# Altium schematic symbol library 常用1.SchLib: 107 symbols
Pins are listed as number, name and electrical type; pins without a type are passive.

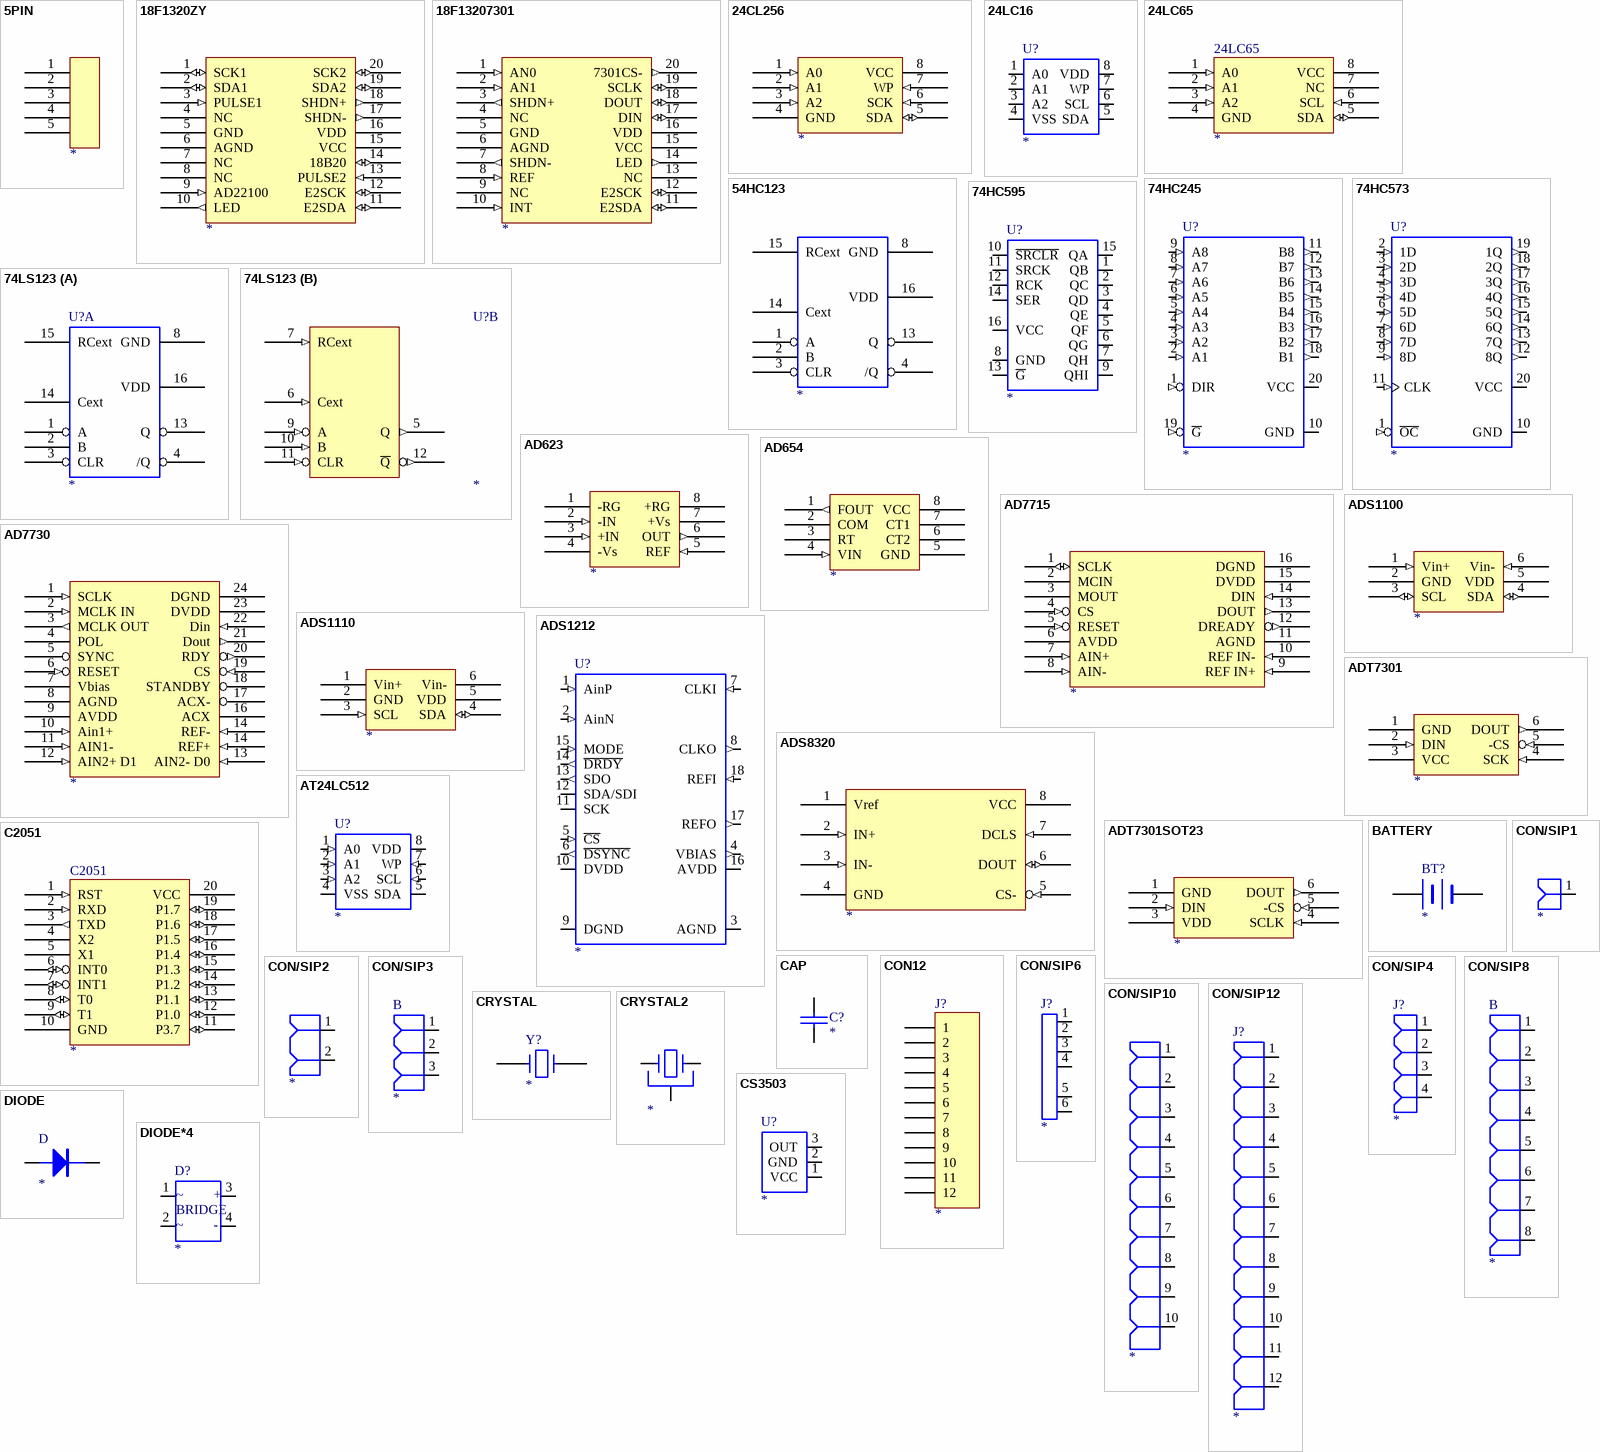
[diagram p0: symbols 5PIN to DIODE*4]

## 5PIN
designator ?
pins: 1, 2, 3, 4, 5

## 18F1320ZY
designator ?
pins: 1 SCK1 (io), 2 SDA1 (io), 3 PULSE1 (in), 4 NC, 5 GND (power), 6 AGND (power), 7 NC, 8 NC, 9 AD22100 (in), 10 LED (out), 11 E2SDA (io), 12 E2SCK (io), 13 PULSE2 (in), 14 18B20 (io), 15 VCC (power), 16 VDD (power), 17 SHDN- (out), 18 SHDN+ (out), 19 SDA2 (io), 20 SCK2 (io)

## 18F13207301
designator ?
pins: 1 AN0 (in), 2 AN1 (in), 3 SHDN+ (out), 4 NC, 5 GND (power), 6 AGND (power), 7 SHDN- (out), 8 REF (in), 9 NC, 10 INT (in), 11 E2SDA (io), 12 E2SCK (io), 13 NC, 14 LED (out), 15 VCC (power), 16 VDD (power), 17 DIN (io), 18 DOUT (io), 19 SCLK (io), 20 7301CS- (out)

## 24CL256
designator ?
pins: 1 A0 (in), 2 A1 (in), 3 A2 (in), 4 GND (power), 5 SDA (io), 6 SCK (in), 7 WP (in), 8 VCC (power)

## 24LC16
designator U?
footprint SO-8
pins: 1 A0, 2 A1, 3 A2, 4 VSS, 5 SDA, 6 SCL, 7 WP, 8 VDD

## 24LC65
designator 24LC65
24LC65
pins: 1 A0 (in), 2 A1 (in), 3 A2 (in), 4 GND (power), 5 SDA (io), 6 SCL (in), 7 NC, 8 VCC (power)

## 54HC123
designator ?
pins: 1 A, 2 B, 3 CLR, 4 /Q, 8 GND, 13 Q, 14 Cext, 15 RCext, 16 VDD

## 74HC245
designator U?
footprint DIP20
pins: 1 DIR (in), 2 A1 (in), 3 A2 (in), 4 A3 (in), 5 A4 (in), 6 A5 (in), 7 A6 (in), 8 A7 (in), 9 A8 (in), 10 GND (power), 11 B8 (out), 12 B7 (out), 13 B6 (out), 14 B5 (out), 15 B4 (out), 16 B3 (out), 17 B2 (out), 18 B1 (out), 19 ~{G} (in), 20 VCC (power)

## 74HC573
designator U?
footprint DIP-20
pins: 1 ~{OC} (in), 2 1D (in), 3 2D (in), 4 3D (in), 5 4D (in), 6 5D (in), 7 6D (in), 8 7D (in), 9 8D (in), 10 GND (power), 11 CLK (in), 12 8Q (out), 13 7Q (out), 14 6Q (out), 15 5Q (out), 16 4Q (out), 17 3Q (out), 18 2Q (out), 19 1Q (out), 20 VCC (power)

## 74HC595
designator U?
footprint DIP16
footprint SO-16
pins: 1 QB, 2 QC, 3 QD, 4 QE, 5 QF, 6 QG, 7 QH, 8 GND, 9 QHI, 10 ~{SRCLR}, 11 SRCK, 12 RCK, 13 ~{G}, 14 SER, 15 QA, 16 VCC

## 74LS123
designator U?
footprint DIP-16
part A pins: 1 A, 2 B, 3 CLR, 4 /Q, 8 GND, 13 Q, 14 Cext, 15 RCext, 16 VCC (power) hidden to VCC, 16 VDD
part B pins: 5 Q (out), 6 Cext (in), 7 RCext (in), 8 GND (power) hidden to GND, 9 A (in), 10 B (in), 11 CLR (in), 12 ~{Q} (out), 16 VCC (power) hidden to VCC

## AD623
designator ?
pins: 1 -RG, 2 -IN (in), 3 +IN (in), 4 -Vs (power), 5 REF (in), 6 OUT (out), 7 +Vs (power), 8 +RG

## AD654
designator ?
pins: 1 FOUT (out), 2 COM (power), 3 RT, 4 VIN (in), 5 GND (power), 6 CT2, 7 CT1, 8 VCC (power)

## AD7715
designator ?
pins: 1 SCLK (io), 2 MCIN (hiz), 3 MOUT (hiz), 4 CS (in), 5 RESET (in), 6 AVDD (power), 7 AIN+ (in), 8 AIN- (in), 9 REF IN+ (in), 10 REF IN- (in), 11 AGND (power), 12 DREADY (out), 13 DOUT (out), 14 DIN (in), 15 DVDD (power), 16 DGND (power)

## AD7730
designator ?
pins: 1 SCLK (in), 2 MCLK IN (in), 3 MCLK OUT (out), 4 POL, 5 SYNC, 6 RESET (in), 7 Vbias, 8 AGND (power), 9 AVDD (power), 10 Ain1+ (in), 11 AIN1- (in), 12 AIN2+ D1 (in), 13 AIN2- D0 (in), 14 REF+ (in), 14 REF- (in), 16 ACX, 17 ACX-, 18 STANDBY, 19 CS (in), 20 RDY (out), 21 Dout (out), 22 Din (in), 23 DVDD (power), 24 DGND (power)

## ADS1100
designator ?
pins: 1 Vin+ (in), 2 GND (power), 3 SCL (io), 4 SDA (io), 5 VDD (power), 6 Vin- (in)

## ADS1110
designator ?
pins: 1 Vin+, 2 GND (power), 3 SCL (in), 4 SDA (io), 5 VDD (power), 6 Vin-

## ADS1212
designator U?
footprint DIP18
footprint SO-18
pins: 1 AinP (in), 2 AinN (in), 3 AGND (power), 4 VBIAS (out), 5 ~{CS} (in), 6 ~{DSYNC} (out), 7 CLKI (in), 8 CLKO (out), 9 DGND (power), 10 DVDD (power), 11 SCK (io), 12 SDA/SDI (io), 13 SDO (out), 14 ~{DRDY} (out), 15 MODE (in), 16 AVDD (power), 17 REFO (out), 18 REFI (in)

## ADS8320
designator ?
pins: 1 Vref, 2 IN+ (in), 3 IN- (in), 4 GND (power), 5 CS- (in), 6 DOUT (io), 7 DCLS (in), 8 VCC (power)

## ADT7301
designator ?
pins: 1 GND (power), 2 DIN (in), 3 VCC (power), 4 SCK (in), 5 -CS (in), 6 DOUT (out)

## ADT7301SOT23
designator ?
pins: 1 GND (power), 2 DIN (in), 3 VDD (power), 4 SCLK (in), 5 -CS (in), 6 DOUT (out)

## AT24LC512
designator U?
footprint DIP8
pins: 1 A0 (in), 2 A1 (in), 3 A2 (in), 4 VSS (power), 5 SDA (io), 6 SCL (in), 7 WP (in), 8 VDD (power)

## BATTERY
designator BT?
Battery
pins: 1 +, 2 -

## C2051
designator C2051
C2051
pins: 1 RST (in), 2 RXD (in), 3 TXD (out), 4 X2, 5 X1, 6 INT0 (io), 7 INT1 (io), 8 T0 (io), 9 T1 (io), 10 GND (power), 11 P3.7 (io), 12 P1.0 (io), 13 P1.1 (io), 14 P1.2 (io), 15 P1.3 (io), 16 P1.4 (io), 17 P1.5 (io), 18 P1.6 (io), 19 P1.7 (io), 20 VCC (power)

## CAP
designator C?
Capacitor
pins: 1, 2

## CON12
designator J?
Connector
pins: 1, 2, 3, 4, 5, 6, 7, 8, 9, 10, 11, 12

## CON/SIP1
designator ?
pins: 1

## CON/SIP2
designator ?
pins: 1  , 2

## CON/SIP3
designator B
footprint SIP2
footprint CON/SIP2/200W
footprint CON/SIP2/200Y
pins: 1  , 2, 3  

## CON/SIP4
designator J?
footprint SIP4
pins: 1, 2, 3, 4

## CON/SIP6
designator J?
pins: 1  , 2, 3  , 4  , 5, 6  

## CON/SIP8
designator B
footprint VA4
footprint CON/SIP8/200Y
footprint CON/SIP8/200W
pins: 1  , 2  , 3  , 4  , 5   , 6   , 7, 8

## CON/SIP10
designator ?
pins: 1  , 2  , 3  , 4  , 5   , 6   , 7, 8, 9, 10

## CON/SIP12
designator J?
footprint POWER_SIP12
pins: 1  , 2  , 3  , 4  , 5   , 6   , 7, 8, 9, 10, 11, 12

## CRYSTAL
designator Y?
Crystal
pins: 1, 2

## CRYSTAL2
designator ?
pins: 1, 2, 3

## CS3503
designator U?
footprint TOP-92B
pins: 1 VCC, 2 GND, 3 OUT

## DIODE
designator D
footprint DIODE0.4
footprint DIODE0.5
footprint DIODE0.2
footprint DIODE/SO.1
pins: 1, 2

## DIODE*4
designator D?
pins: 1, 2, 3, 4
text: ~; +; BRIDGE; -

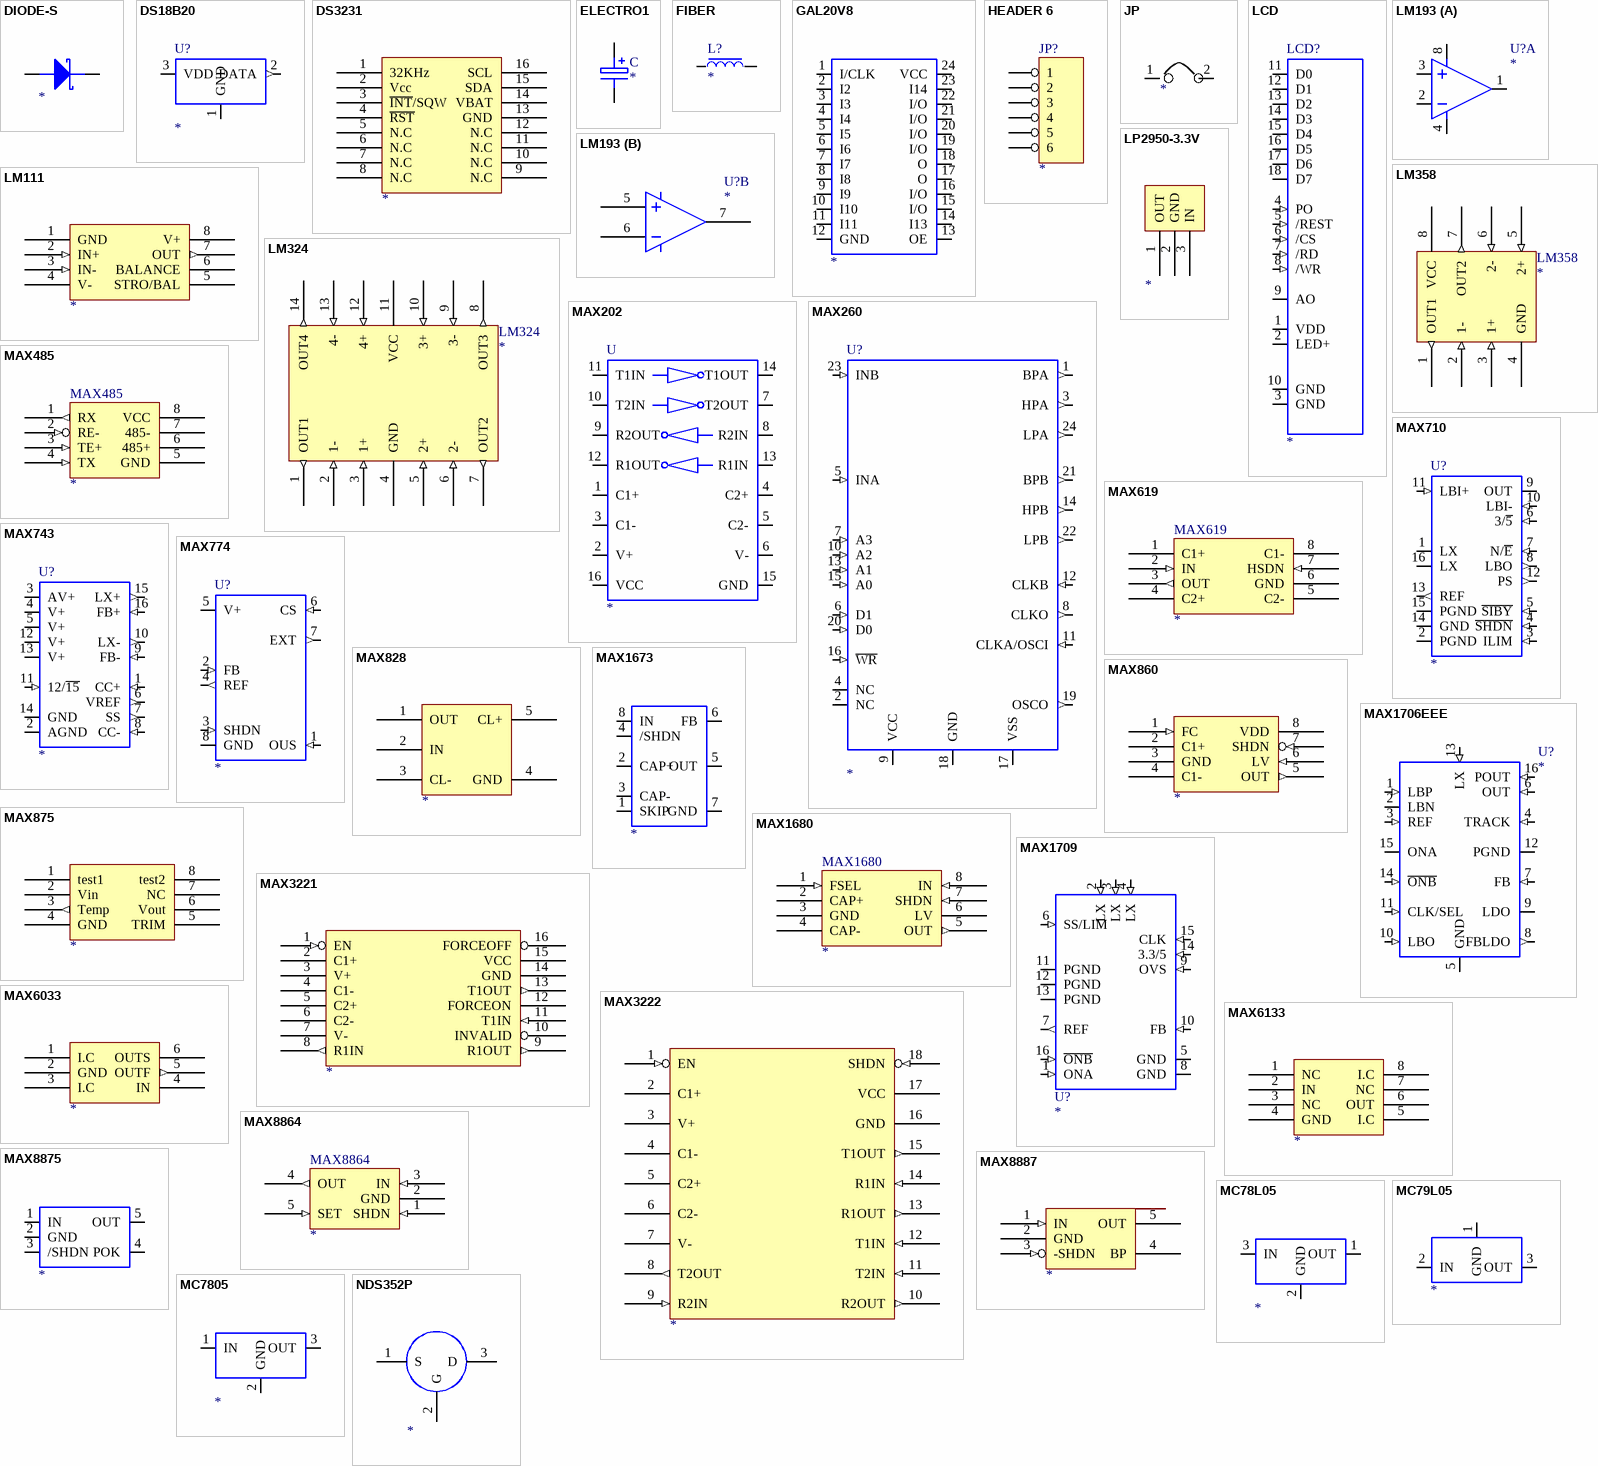
[diagram p1: symbols DIODE-S to NDS352P]

## DIODE-S
designator ?
pins: 1, 2

## DS18B20
designator U?
footprint TO-92A
pins: 1 GND (power), 2 DATA (out), 3 VDD (power)

## DS3231
designator ?
pins: 1 32KHz, 2 Vcc, 3 ~{INT}/SQW, 4 ~{RST}, 5 N.C, 6 N.C, 7 N.C, 8 N.C, 9 N.C, 10 N.C, 11 N.C, 12 N.C, 13 GND, 14 VBAT, 15 SDA, 16 SCL

## ELECTRO1
designator C
footprint RB.1/.2
footprint RB.2/.4
footprint RB.3/.6
footprint 1210
pins: 1, 2

## FIBER
designator L?
footprint L0.4
footprint 0805
footprint 1210
pins: 1, 2

## GAL20V8
designator ?
pins: 1 I/CLK, 2 I2, 3 I3, 4 I4, 5 I5, 6 I6, 7 I7, 8 I8, 9 I9, 10 I10, 11 I11, 12 GND, 13 OE, 14 I13, 15 I/O, 16 I/O, 17 O, 18 O, 19 I/O, 20 I/O, 21 I/O, 22 I/O, 23 I14, 24 VCC

## HEADER 6
designator JP?
pins: 1, 2, 3, 4, 5, 6

## JP
designator ?
pins: 1, 2

## LCD
designator LCD?
footprint CON22
pins: 1 VDD (power), 2 LED+ (power), 3 GND (power), 4 PO (in), 5 /REST (in), 6 /CS (in), 7 /RD (in), 8 /WR (in), 9 AO, 10 GND (power), 11 D0 (io), 12 D1 (io), 13 D2 (io), 14 D3 (io), 15 D4 (io), 16 D5 (io), 17 D6 (io), 18 D7 (io)

## LM111
designator ?
pins: 1 GND (power), 2 IN+ (in), 3 IN- (in), 4 V- (power), 5 STRO/BAL, 6 BALANCE, 7 OUT (out), 8 V+ (power)

## LM193
designator U?
footprint DIP-8
part A pins: 1, 2, 3, 4, 8
part B pins: 5, 6, 7

## LM324
designator LM324
pins: 1 OUT1 (out), 2 1- (in), 3 1+ (in), 4 GND (power), 5 2+ (in), 6 2- (in), 7 OUT2 (out), 8 OUT3 (out), 9 3- (in), 10 3+ (in), 11 VCC (power), 12 4+ (in), 13 4- (in), 14 OUT4 (out)

## LM358
designator LM358
pins: 1 OUT1 (out), 2 1- (in), 3 1+ (in), 4 GND (power), 5 2+ (in), 6 2- (in), 7 OUT2 (out), 8 VCC (power)

## LP2950-3.3V
designator ?
pins: 1 OUT, 2 GND, 3 IN

## MAX202
designator U
footprint DIP16
pins: 1 C1+, 2 V+, 3 C1-, 4 C2+, 5 C2-, 6 V-, 7 T2OUT, 8 R2IN, 9 R2OUT, 10 T2IN, 11 T1IN, 12 R1OUT, 13 R1IN, 14 T1OUT, 15 GND, 16 VCC

## MAX260
designator U?
footprint SO-W24
footprint DIP24
pins: 1 BPA (out), 2 NC, 3 HPA (out), 4 NC, 5 INA (in), 6 D1 (in), 7 A3 (in), 8 CLKO (out), 9 VCC (power), 10 A2 (in), 11 CLKA/OSCI (in), 12 CLKB (in), 13 A1 (in), 14 HPB (out), 15 A0 (in), 16 ~{WR} (in), 17 VSS (power), 18 GND (power), 19 OSCO (out), 20 D0 (in), 21 BPB (out), 22 LPB (out), 23 INB (in), 24 LPA (out)

## MAX485
designator MAX485
MAX485
pins: 1 RX (out), 2 RE- (in), 3 TE+ (in), 4 TX (in), 5 GND (power), 6 485+, 7 485-, 8 VCC (power)

## MAX619
designator MAX619
MAX619
pins: 1 C1+, 2 IN (in), 3 OUT (out), 4 C2+, 5 C2-, 6 GND (power), 7 HSDN (in), 8 C1-

## MAX710
designator U?
MAX710/1
pins: 1 LX (power), 2 PGND (power), 3 ILIM (in), 4 ~{SHDN} (in), 5 ~{SIBY} (in), 6 3/~{5} (in), 7 N/~{E} (in), 8 LBO (out), 9 OUT (power), 10 LBI- (in), 11 LBI+ (in), 12 PS (out), 13 REF (out), 14 GND (power), 15 PGND (power), 16 LX (power)

## MAX743
designator U?
MAX743
footprint DIP16
pins: 1 CC+ (in), 2 AGND (power), 3 AV+ (power), 4 V+ (power), 5 V+ (power), 6 VREF (out), 7 SS (out), 8 CC- (in), 9 FB- (in), 10 LX- (out), 11 12/~{15} (in), 12 V+ (power), 13 V+ (power), 14 GND (power), 15 LX+ (out), 16 FB+ (in)

## MAX774
designator U?
footprint SO-8
pins: 1 OUS (in), 2 FB (in), 3 SHDN (in), 4 REF (out), 5 V+ (power), 6 CS (in), 7 EXT (out), 8 GND (power)

## MAX828
designator ?
pins: 1 OUT (power), 2 IN (power), 3 CL-, 4 GND (power), 5 CL+

## MAX860
designator ?
pins: 1 FC (in), 2 C1+, 3 GND (power), 4 C1-, 5 OUT (out), 6 LV (in), 7 SHDN (in), 8 VDD (power)

## MAX875
designator ?
pins: 1 test1, 2 Vin (power), 3 Temp (out), 4 GND (power), 5 TRIM, 6 Vout (power), 7 NC, 8 test2

## MAX1673
designator ?
pins: 1 SKIP, 2 CAP+, 3 CAP-, 4 /SHDN, 5 OUT, 6 FB, 7 GND, 8 IN

## MAX1680
designator MAX1680
MAX1680
pins: 1 FSEL (in), 2 CAP+, 3 GND (power), 4 CAP-, 5 OUT (out), 6 LV, 7 SHDN (in), 8 IN (in)

## MAX1706EEE
designator U?
footprint SO-16
pins: 1 LBP (in), 2 LBN (power), 3 REF (in), 4 TRACK (in), 5 GND (power), 6 OUT (in), 7 FB (in), 8 FBLDO (out), 9 LDO (power), 10 LBO (in), 11 CLK/SEL (in), 12 PGND (power), 13 LX (in), 14 ~{ONB} (in), 15 ONA (power), 16 POUT (in)

## MAX1709
designator U?
footprint SO-16
pins: 1 ONA (in), 2 LX (in), 3 LX (in), 4 LX (in), 5 GND (power), 6 SS/LIM (in), 7 REF (out), 8 GND (power), 9 OVS (in), 10 FB (in), 11 PGND (power), 12 PGND (power), 13 PGND (power), 14 3.3/5 (in), 15 CLK (in), 16 ~{ONB} (in)

## MAX3221
designator ?
pins: 1 EN (in), 2 C1+, 3 V+, 4 C1-, 5 C2+, 6 C2-, 7 V-, 8 R1IN (out), 9 R1OUT (out), 10 INVALID, 11 T1IN (in), 12 FORCEON, 13 T1OUT (out), 14 GND (power), 15 VCC (power), 16 FORCEOFF

## MAX3222
designator ?
pins: 1 EN (in), 2 C1+, 3 V+, 4 C1-, 5 C2+, 6 C2-, 7 V-, 8 T2OUT (out), 9 R2IN (in), 10 R2OUT (out), 11 T2IN (in), 12 T1IN (in), 13 R1OUT (out), 14 R1IN (in), 15 T1OUT (out), 16 GND (power), 17 VCC (power), 18 SHDN (in)

## MAX6033
designator ?
pins: 1 I.C, 2 GND (power), 3 I.C, 4 IN (power), 5 OUTF (out), 6 OUTS (power)

## MAX6133
designator ?
pins: 1 NC, 2 IN (power), 3 NC, 4 GND (power), 5 I.C, 6 OUT (power), 7 NC, 8 I.C

## MAX8864
designator MAX8864
MAX8864
pins: 1 SHDN (in), 2 GND (power), 3 IN (in), 4 OUT (out), 5 SET (in)

## MAX8875
designator ?
pins: 1 IN, 2 GND, 3 /SHDN, 4 POK, 5 OUT

## MAX8887
designator ?
pins: 1 IN (in), 2 GND (power), 3 -SHDN (in), 4 BP, 5 OUT (power)

## MC78L05
designator ?
pins: 1 OUT, 2 GND, 3 IN

## MC79L05
designator ?
footprint TO-92B
footprint TO-126
pins: 1 GND, 2 IN, 3 OUT

## MC7805
designator ?
pins: 1 IN, 2 GND, 3 OUT

## NDS352P
designator ?
pins: 1 S, 2 G, 3 D

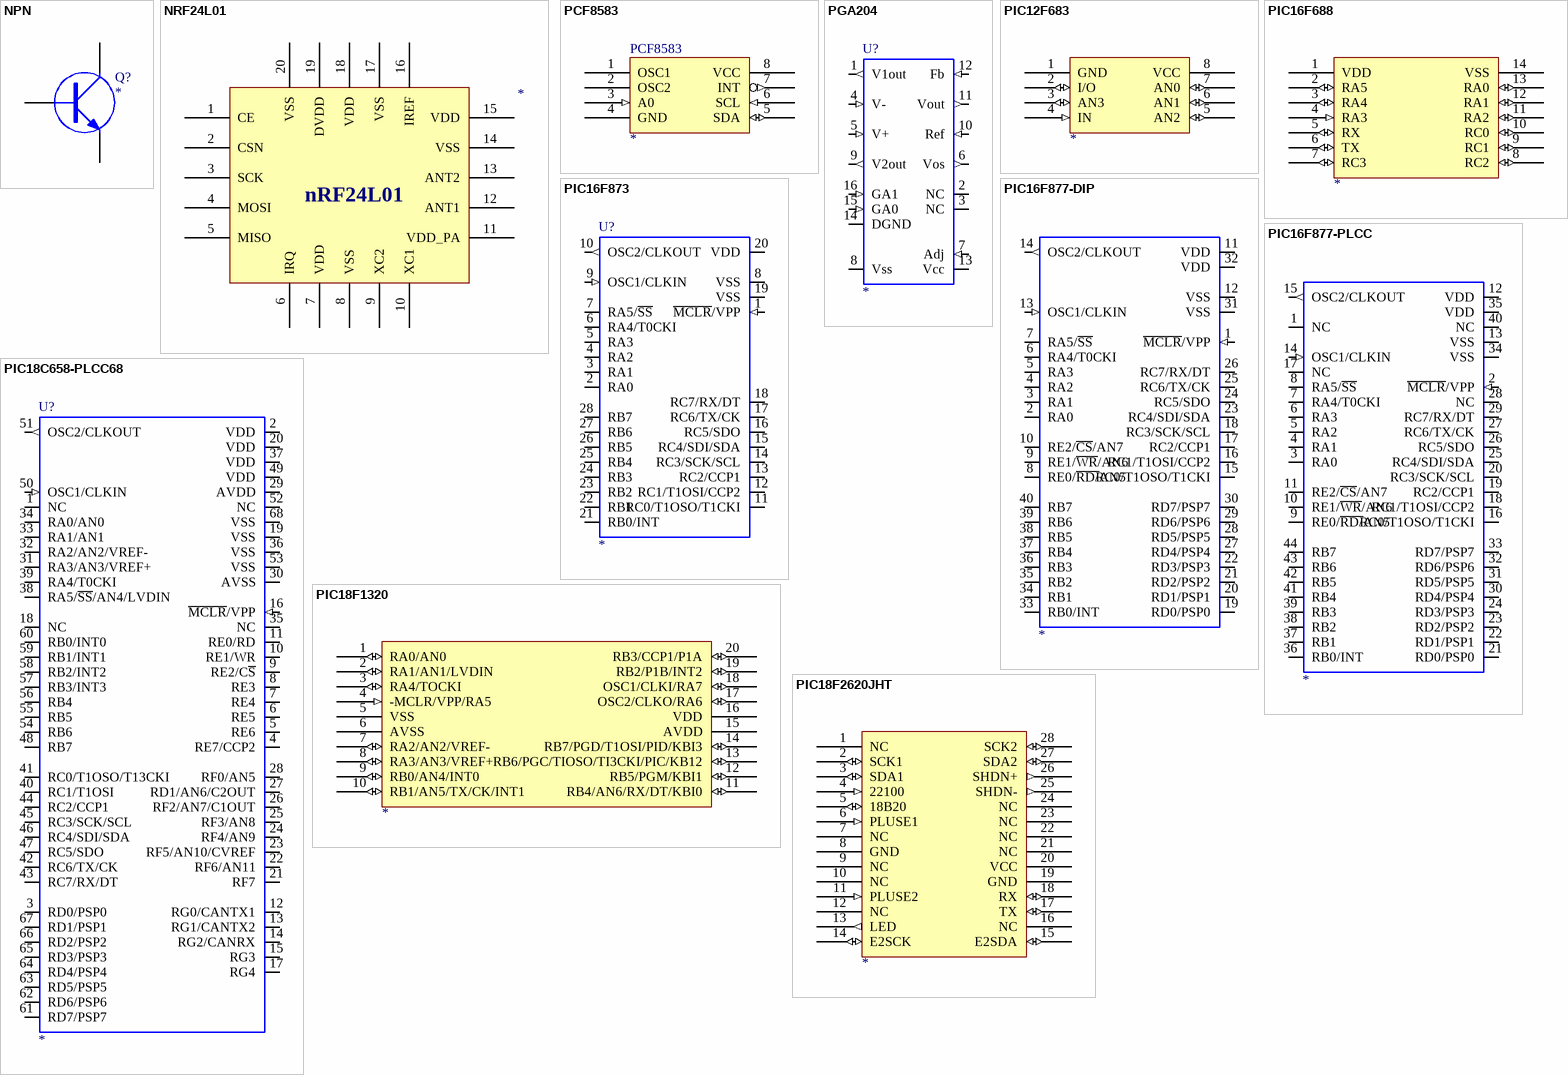
[diagram p2: symbols NPN to PIC18F2620JHT]

## NPN
designator Q?
NPN Transistor
pins: 1 B, 2 E, 3 C

## NRF24L01
designator ?
pins: 1 CE, 2 CSN, 3 SCK, 4 MOSI, 5 MISO, 6 IRQ, 7 VDD, 8 VSS, 9 XC2, 10 XC1, 11 VDD_PA, 12 ANT1, 13 ANT2, 14 VSS, 15 VDD, 16 IREF, 17 VSS, 18 VDD, 19 DVDD, 20 VSS
text: nRF24L01

## PCF8583
designator PCF8583
PCF8583
pins: 1 OSC1, 2 OSC2, 3 A0 (in), 4 GND (power), 5 SDA (io), 6 SCL (in), 7 INT (out), 8 VCC (power)

## PGA204
designator U?
PGA204
footprint DIP16
pins: 1 V1out (out), 2 NC, 3 NC, 4 V- (in), 5 V+ (in), 6 Vos (out), 7 Adj (in), 8 Vss (power), 9 V2out (out), 10 Ref (in), 11 Vout (out), 12 Fb (in), 13 Vcc (power), 14 DGND (power), 15 GA0 (in), 16 GA1 (in)

## PIC12F683
designator ?
pins: 1 GND (power), 2 I/O (io), 3 AN3 (io), 4 IN (in), 5 AN2 (io), 6 AN1 (io), 7 AN0 (io), 8 VCC (power)

## PIC16F688
designator ?
pins: 1 VDD (power), 2 RA5 (io), 3 RA4 (io), 4 RA3 (in), 5 RX (io), 6 TX (io), 7 RC3 (io), 8 RC2 (io), 9 RC1 (io), 10 RC0 (io), 11 RA2 (io), 12 RA1 (io), 13 RA0 (io), 14 VSS (power)

## PIC16F873
designator U?
footprint DIP-28
pins: 1 ~{MCLR}/VPP (in), 2 RA0 (io), 3 RA1 (io), 4 RA2 (io), 5 RA3 (io), 6 RA4/T0CKI (io), 7 RA5/~{SS} (io), 8 VSS (power), 9 OSC1/CLKIN (in), 10 OSC2/CLKOUT (out), 11 RC0/T1OSO/T1CKI (io), 12 RC1/T1OSI/CCP2 (io), 13 RC2/CCP1 (io), 14 RC3/SCK/SCL (io), 15 RC4/SDI/SDA (io), 16 RC5/SDO (io), 17 RC6/TX/CK (io), 18 RC7/RX/DT (io), 19 VSS (power), 20 VDD (power), 21 RB0/INT (io), 22 RB1 (io), 23 RB2 (io), 24 RB3 (io), 25 RB4 (io), 26 RB5 (io), 27 RB6 (io), 28 RB7 (io)

## PIC16F877-DIP
designator ?
pins: 1 ~{MCLR}/VPP (in), 2 RA0 (io), 3 RA1 (io), 4 RA2 (io), 5 RA3 (io), 6 RA4/T0CKI (io), 7 RA5/~{SS} (io), 8 RE0/~{RD/}AN5 (io), 9 RE1/~{WR}/AN6 (io), 10 RE2/~{CS}/AN7 (io), 11 VDD (power), 12 VSS (power), 13 OSC1/CLKIN (in), 14 OSC2/CLKOUT (out), 15 RC0/T1OSO/T1CKI (io), 16 RC1/T1OSI/CCP2 (io), 17 RC2/CCP1 (io), 18 RC3/SCK/SCL (io), 19 RD0/PSP0 (io), 20 RD1/PSP1 (io), 21 RD2/PSP2 (io), 22 RD3/PSP3 (io), 23 RC4/SDI/SDA (io), 24 RC5/SDO (io), 25 RC6/TX/CK (io), 26 RC7/RX/DT (io), 27 RD4/PSP4 (io), 28 RD5/PSP5 (io), 29 RD6/PSP6 (io), 30 RD7/PSP7 (io), 31 VSS (power), 32 VDD (power), 33 RB0/INT (io), 34 RB1 (io), 35 RB2 (io), 36 RB3 (io), 37 RB4 (io), 38 RB5 (io), 39 RB6 (io), 40 RB7 (io)

## PIC16F877-PLCC
designator ?
pins: 1 NC (io), 2 ~{MCLR}/VPP (in), 3 RA0 (io), 4 RA1 (io), 5 RA2 (io), 6 RA3 (io), 7 RA4/T0CKI (io), 8 RA5/~{SS} (io), 9 RE0/~{RD/}AN5 (io), 10 RE1/~{WR}/AN6 (io), 11 RE2/~{CS}/AN7 (io), 12 VDD (power), 13 VSS (power), 14 OSC1/CLKIN (in), 15 OSC2/CLKOUT (out), 16 RC0/T1OSO/T1CKI (io), 17 NC, 18 RC1/T1OSI/CCP2 (io), 19 RC2/CCP1 (io), 20 RC3/SCK/SCL (io), 21 RD0/PSP0 (io), 22 RD1/PSP1 (io), 23 RD2/PSP2 (io), 24 RD3/PSP3 (io), 25 RC4/SDI/SDA (io), 26 RC5/SDO (io), 27 RC6/TX/CK (io), 28 NC, 29 RC7/RX/DT (io), 30 RD4/PSP4 (io), 31 RD5/PSP5 (io), 32 RD6/PSP6 (io), 33 RD7/PSP7 (io), 34 VSS (power), 35 VDD (power), 36 RB0/INT (io), 37 RB1 (io), 38 RB2 (io), 39 RB3 (io), 40 NC, 41 RB4 (io), 42 RB5 (io), 43 RB6 (io), 44 RB7 (io)

## PIC18C658-PLCC68
designator U?
footprint PGA68_11X11
pins: 1 NC, 2 VDD (power), 3 RD0/PSP0 (io), 4 RE7/CCP2 (io), 5 RE6 (io), 6 RE5 (io), 7 RE4 (io), 8 RE3 (io), 9 RE2/C~{S} (io), 10 RE1/WR (io), 11 RE0/RD (io), 12 RG0/CANTX1 (io), 13 RG1/CANTX2 (io), 14 RG2/CANRX (io), 15 RG3 (io), 16 ~{MCLR}/VPP (in), 17 RG4 (io), 18 NC, 19 VSS (power), 20 VDD (power), 21 RF7 (io), 22 RF6/AN11 (io), 23 RF5/AN10/CVREF (io), 24 RF4/AN9 (io), 25 RF3/AN8 (io), 26 RF2/AN7/C1OUT (io), 27 RD1/AN6/C2OUT (io), 28 RF0/AN5 (io), 29 AVDD, 30 AVSS, 31 RA3/AN3/VREF+ (io), 32 RA2/AN2/VREF- (io), 33 RA1/AN1 (io), 34 RA0/AN0 (io), 35 NC, 36 VSS (power), 37 VDD, 38 RA5/~{SS}/AN4/LVDIN (io), 39 RA4/T0CKI (io), 40 RC1/T1OSI (io), 41 RC0/T1OSO/T13CKI (io), 42 RC6/TX/CK (io), 43 RC7/RX/DT (io), 44 RC2/CCP1 (io), 45 RC3/SCK/SCL (io), 46 RC4/SDI/SDA (io), 47 RC5/SDO (io), 48 RB7 (io), 49 VDD, 50 OSC1/CLKIN (in), 51 OSC2/CLKOUT (out), 52 NC, 53 VSS (power), 54 RB6 (io), 55 RB5 (io), 56 RB4 (io), 57 RB3/INT3 (io), 58 RB2/INT2 (io), 59 RB1/INT1 (io), 60 RB0/INT0 (io), 61 RD7/PSP7 (io), 62 RD6/PSP6 (io), 63 RD5/PSP5 (io), 64 RD4/PSP4 (io), 65 RD3/PSP3 (io), 66 RD2/PSP2 (io), 67 RD1/PSP1 (io), 68 VSS (power)

## PIC18F1320
designator ?
pins: 1 RA0/AN0 (io), 2 RA1/AN1/LVDIN (io), 3 RA4/TOCKI (io), 4 -MCLR/VPP/RA5 (in), 5 VSS (power), 6 AVSS (power), 7 RA2/AN2/VREF- (io), 8 RA3/AN3/VREF+ (io), 9 RB0/AN4/INT0 (io), 10 RB1/AN5/TX/CK/INT1 (io), 11 RB4/AN6/RX/DT/KBI0 (io), 12 RB5/PGM/KBI1 (io), 13 RB6/PGC/TIOSO/TI3CKI/PIC/KB12 (io), 14 RB7/PGD/T1OSI/PID/KBI3 (io), 15 AVDD (power), 16 VDD (power), 17 OSC2/CLKO/RA6 (io), 18 OSC1/CLKI/RA7 (io), 19 RB2/P1B/INT2 (io), 20 RB3/CCP1/P1A (io)

## PIC18F2620JHT
designator ?
pins: 1 NC, 2 SCK1 (io), 3 SDA1 (io), 4 22100 (in), 5 18B20 (io), 6 PLUSE1 (in), 7 NC, 8 GND (power), 9 NC, 10 NC, 11 PLUSE2 (in), 12 NC, 13 LED (out), 14 E2SCK (io), 15 E2SDA (io), 16 NC, 17 TX (io), 18 RX (io), 19 GND (power), 20 VCC (power), 21 NC, 22 NC, 23 NC, 24 NC, 25 SHDN- (out), 26 SHDN+ (out), 27 SDA2 (io), 28 SCK2 (io)

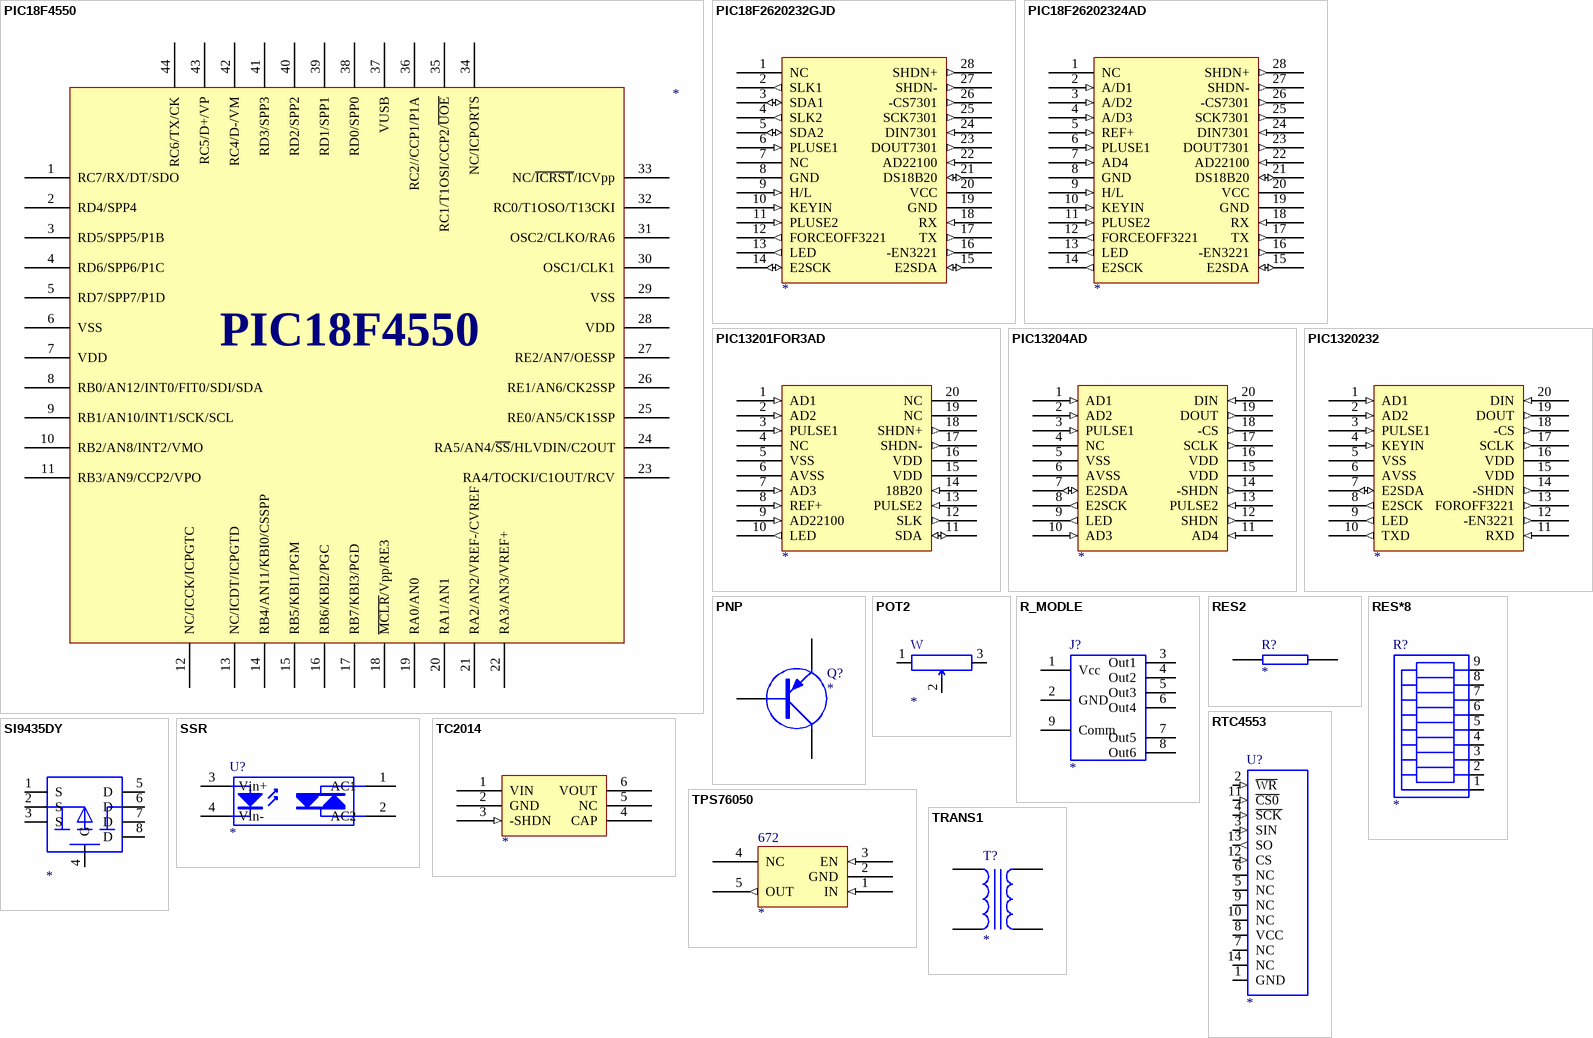
[diagram p3: symbols PIC18F4550 to TRANS1]

## PIC18F4550
designator ?
pins: 1 RC7/RX/DT/SDO, 2 RD4/SPP4, 3 RD5/SPP5/P1B, 4 RD6/SPP6/P1C, 5 RD7/SPP7/P1D, 6 VSS, 7 VDD, 8 RB0/AN12/INT0/FIT0/SDI/SDA, 9 RB1/AN10/INT1/SCK/SCL, 10 RB2/AN8/INT2/VMO, 11 RB3/AN9/CCP2/VPO, 12 NC/ICCK/ICPGTC, 13 NC/ICDT/ICPGTD, 14 RB4/AN11/KBI0/CSSPP, 15 RB5/KBI1/PGM, 16 RB6/KBI2/PGC, 17 RB7/KBI3/PGD, 18 ~{MCLR}/Vpp/RE3, 19 RA0/AN0, 20 RA1/AN1, 21 RA2/AN2/VREF-/CVREF, 22 RA3/AN3/VREF+, 23 RA4/TOCKI/C1OUT/RCV, 24 RA5/AN4/~{SS}/HLVDIN/C2OUT, 25 RE0/AN5/CK1SSP, 26 RE1/AN6/CK2SSP, 27 RE2/AN7/OESSP, 28 VDD, 29 VSS, 30 OSC1/CLK1, 31 OSC2/CLKO/RA6, 32 RC0/T1OSO/T13CKI, 33 NC/~{ICRST}/ICVpp, 34 NC/ICPORTS, 35 RC1/T1OSI/CCP2/~{UOE}, 36 RC2//CCP1/P1A, 37 VUSB, 38 RD0/SPP0, 39 RD1/SPP1, 40 RD2/SPP2, 41 RD3/SPP3, 42 RC4/D-/VM, 43 RC5/D+/VP, 44 RC6/TX/CK

## PIC18F2620232GJD
designator ?
pins: 1 NC, 2 SLK1 (out), 3 SDA1 (io), 4 SLK2 (out), 5 SDA2 (io), 6 PLUSE1 (in), 7 NC, 8 GND (power), 9 H/L (in), 10 KEYIN (in), 11 PLUSE2 (in), 12 FORCEOFF3221 (out), 13 LED (out), 14 E2SCK (io), 15 E2SDA (io), 16 -EN3221 (out), 17 TX (out), 18 RX (in), 19 GND (power), 20 VCC (power), 21 DS18B20 (io), 22 AD22100 (in), 23 DOUT7301 (out), 24 DIN7301 (in), 25 SCK7301 (out), 26 -CS7301 (out), 27 SHDN- (out), 28 SHDN+ (out)

## PIC18F26202324AD
designator ?
pins: 1 NC, 2 A/D1 (in), 3 A/D2 (in), 4 A/D3 (in), 5 REF+ (in), 6 PLUSE1 (in), 7 AD4 (in), 8 GND (power), 9 H/L (in), 10 KEYIN (in), 11 PLUSE2 (in), 12 FORCEOFF3221 (out), 13 LED (out), 14 E2SCK (out), 15 E2SDA (io), 16 -EN3221 (out), 17 TX (out), 18 RX (in), 19 GND (power), 20 VCC (power), 21 DS18B20 (io), 22 AD22100 (in), 23 DOUT7301 (out), 24 DIN7301 (in), 25 SCK7301 (out), 26 -CS7301 (out), 27 SHDN- (out), 28 SHDN+ (out)

## PIC13201FOR3AD
designator ?
pins: 1 AD1 (in), 2 AD2 (in), 3 PULSE1 (in), 4 NC, 5 VSS (power), 6 AVSS (power), 7 AD3 (in), 8 REF+ (in), 9 AD22100 (in), 10 LED (out), 11 SDA (io), 12 SLK (out), 13 PULSE2 (in), 14 18B20 (in), 15 VDD (power), 16 VDD (power), 17 SHDN- (out), 18 SHDN+ (out), 19 NC, 20 NC

## PIC13204AD
designator ?
pins: 1 AD1 (in), 2 AD2 (in), 3 PULSE1 (in), 4 NC, 5 VSS (power), 6 AVSS (power), 7 E2SDA (io), 8 E2SCK (out), 9 LED (out), 10 AD3 (in), 11 AD4 (in), 12 SHDN (out), 13 PULSE2 (in), 14 -SHDN (out), 15 VDD (power), 16 VDD (power), 17 SCLK (out), 18 -CS (out), 19 DOUT (out), 20 DIN (in)

## PIC1320232
designator ?
pins: 1 AD1 (in), 2 AD2 (in), 3 PULSE1 (in), 4 KEYIN (in), 5 VSS (power), 6 AVSS (power), 7 E2SDA (io), 8 E2SCK (out), 9 LED (out), 10 TXD (out), 11 RXD (in), 12 -EN3221 (out), 13 FOROFF3221 (out), 14 -SHDN (out), 15 VDD (power), 16 VDD (power), 17 SCLK (out), 18 -CS (out), 19 DOUT (out), 20 DIN (in)

## PNP
designator Q?
PNP Transistor
pins: 1 B, 2 E, 3 C

## POT2
designator W
footprint 3296
pins: 1, 2, 3

## R_MODLE
designator J?
pins: 1 Vcc, 2 GND, 3 Out1, 4 Out2, 5 Out3, 6 Out4, 7 Out5, 8 Out6, 9 Comm

## RES2
designator R?
pins: 1, 2

## RES*8
designator R?
footprint SIP9
pins: 1, 2, 3, 4, 5, 6, 7, 8, 9

## RTC4553
designator U?
footprint DIP-14
pins: 1 GND (power), 2 ~{WR} (in), 3 SIN (in), 4 ~{SCK} (in), 5 NC, 6 NC, 7 NC, 8 VCC (power), 9 NC, 10 NC, 11 ~{CS0} (in), 12 CS (in), 13 SO (out), 14 NC

## SI9435DY
designator ?
footprint SO-8
pins: 1 S, 2 S, 3 S, 4 G, 5 D, 6 D, 7 D, 8 D

## SSR
designator U?
footprint SSR_1
pins: 1 AC1, 2 AC2, 3 Vin+, 4 Vin-

## TC2014
designator ?
pins: 1 VIN, 2 GND (power), 3 -SHDN (in), 4 CAP, 5 NC, 6 VOUT

## TPS76050
designator 672
672
pins: 1 IN (in), 2 GND (power), 3 EN (in), 4 NC, 5 OUT (out)

## TRANS1
designator T?
pins: 1, 2, 3, 4